# EAGLE library part MAX4478 (library Parts)
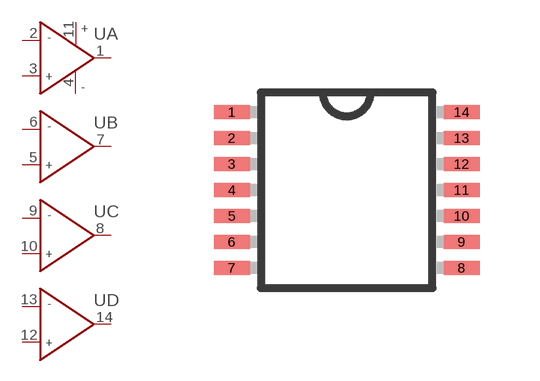
[diagram p4: symbol with the pads of TSSOP-14; footprint TSSOP-14]

Designator prefix U; gates A=OP_VCC B=OP C=OP D=OP

## MAX4478  [TSSOP-14]
1  A:OUT  out
2  A:IN-  in
3  A:IN+  in
4  A:-  pwr
5  B:IN+  in
6  B:IN-  in
7  B:OUT  out
8  C:OUT  out
9  C:IN-  in
10  C:IN+  in
11  A:+  pwr
12  D:IN+  in
13  D:IN-  in
14  D:OUT  out

## Footprint TSSOP-14 (pad centres in mm)
14-Lead Thin Shrink Small Outline Package [TSSOP] Source: Analog Devices .. 780914713ADD8704_0.pdf
smd 0.9 x 0.35: 1 -2.875,1.95; 2 -2.875,1.3; 3 -2.875,0.65; 4 -2.875,0; 5 -2.875,-0.65; 6 -2.875,-1.3; 7 -2.875,-1.95; 8 2.875,-1.95; 9 2.875,-1.3; 10 2.875,-0.65; 11 2.875,0; 12 2.875,0.65; 13 2.875,1.3; 14 2.875,1.95